# Altium footprint library LT8494.PcbLib: 3 footprints
Each footprint in its own frame and in the unit in brackets; x right, y up, seen from the top. Pads: shape width x height; smd on the part's side, far side on the other; paste and mask are expansions set on the pad; w line width, h text height; cw(c..) or ccw(c..) is an arc to the next point about the centre after c.
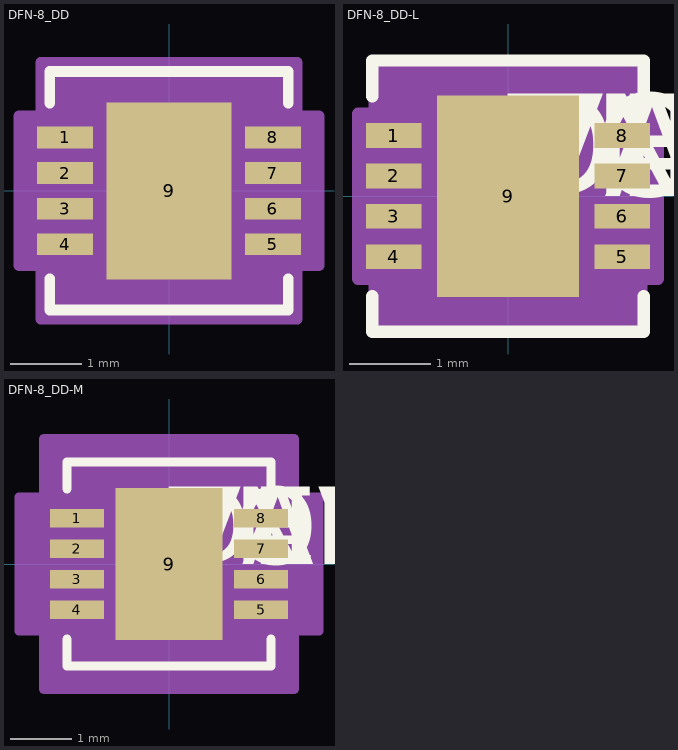
[diagram p0: the footprints below, top view; thin cyan lines are the x and y axes]

## DFN-8_DD [mil]
pads (9):
  rect 31x12 smd: 1(-57.5,29.53) 2(-57.5,9.84) 3(-57.5,-9.84) 4(-57.5,-29.53) 5(57.5,-29.53) 6(57.5,-9.84) 7(57.5,9.84) 8(57.5,29.53)
  rect 69x98 smd paste-48.5: 9(0,0)
Top Overlay:
  lines w6: -66,-48.63 -66,-66 66,-66 66,-48.63 ; -66,48.63 -66,66 66,66 66,48.63
Top Paste:
  region: 34.5,49 -34.5,49 -34.5,-49 34.5,-49
Mechanical 13:
  lines w0: -12,61 ccw(c0,61) 12,61
Mechanical 15:
  region: -71,-41.37 -83,-41.37 -83,41.37 -71,41.37 -71,71 71,71 71,41.37 83,41.37 83,-41.37 71,-41.37 71,-71 -71,-71
  lines w6: -83,-41.37 -71,-41.37 -71,-71 71,-71 71,-41.37 83,-41.37 83,41.37 71,41.37 71,71 -71,71 -71,41.37 -83,41.37 -83,-41.37
3D body "DFN-8_DD.stp": height 32.1, standoff 0, extent -63,-61 63,61

## DFN-8_DD-L [mil]
pads (9):
  rect 27x12 smd: 1(-55.5,29.53) 2(-55.5,9.84) 3(-55.5,-9.84) 4(-55.5,-29.53) 5(55.5,-29.53) 6(55.5,-9.84) 7(55.5,9.84) 8(55.5,29.53)
  rect 69x98 smd paste-48.5: 9(0,0)
Top Overlay:
  lines w6: -66,-48.63 -66,-66 66,-66 66,-48.63 ; -66,48.63 -66,66 66,66 66,48.63
  text "PN" at 0,0 h50
  text "DEV" at 0,0 h50
  text "VAL" at 0,0 h50
  text "TOL" at 0,0 h50
Top Paste:
  region: 34.5,49 -34.5,49 -34.5,-49 34.5,-49
Mechanical 13:
  lines w0: -12,61 ccw(c0,61) 12,61
  text "RefDes2" at 0,0 h50
Mechanical 15:
  region: -65,-40.17 -73,-40.17 -73,40.17 -65,40.17 -65,65 65,65 65,40.17 73,40.17 73,-40.17 65,-40.17 65,-65 -65,-65
  lines w6: -73,-40.17 -73,40.17 -65,40.17 -65,65 65,65 65,40.17 73,40.17 73,-40.17 65,-40.17 65,-65 -65,-65 -65,-40.17 -73,-40.17
3D body "DFN-8_DD-L.stp": height 32.1, standoff 0, extent -63,-61 63,61

## DFN-8_DD-M [mil]
pads (9):
  rect 35x12 smd: 1(-59.5,29.53) 2(-59.5,9.84) 3(-59.5,-9.84) 4(-59.5,-29.53) 5(59.5,-29.53) 6(59.5,-9.84) 7(59.5,9.84) 8(59.5,29.53)
  rect 69x98 smd paste-48.5: 9(0,0)
Top Overlay:
  lines w6: -66,-48.63 -66,-66 66,-66 66,-48.63 ; -66,48.63 -66,66 66,66 66,48.63
  text "PN" at 0,0 h50
  text "DEV" at 0,0 h50
  text "VAL" at 0,0 h50
  text "TOL" at 0,0 h50
Top Paste:
  region: 34.5,49 -34.5,49 -34.5,-49 34.5,-49
Mechanical 13:
  lines w0: -12,61 ccw(c0,61) 12,61
  text "RefDes2" at 0,0 h50
Mechanical 15:
  region: -81,-43.37 -97,-43.37 -97,43.37 -81,43.37 -81,81 81,81 81,43.37 97,43.37 97,-43.37 81,-43.37 81,-81 -81,-81
  lines w6: -97,-43.37 -97,43.37 -81,43.37 -81,81 81,81 81,43.37 97,43.37 97,-43.37 81,-43.37 81,-81 -81,-81 -81,-43.37 -97,-43.37
3D body "DFN-8_DD-M.stp": height 32.1, standoff 0, extent -63,-61 63,61